# EAGLE library part 739-174 (library con-wago_739)
Serie 739, Klemmenleiste für Leiterplatten 1 Lötstift/Pol / Series 739, PCB terminal strip 1 solder pin/pole Polzahl / Pole No.: 24 Rastermaß / Pitch: 5.08 mm Bemessungsspannung / Rated Voltage: 320 V Nennstrom / Nominal Current: 24 A Leiterquerschnitt / Conductor Size: 0.08 - 2.5 mm² Anschlusstechnik / Connection Technology: CAGE CLAMP® Lötstiftlänge: / Solder Pin Length: 3.2 mm Leitereinführung (zur Platine) / Conductor entry angle (to PCB): 90 ° Farbe / Color: orange / orange Stand: 01.01.2012. Die jeweils aktuellen Daten zu diesem Artikel finden Sie in unserem Produktkatalog, den Sie unter www.wago.com einsehen können. As of: 01/01/2012. Please find the newest data for this article in our product catalogue, which can be viewed under www.wago.com.
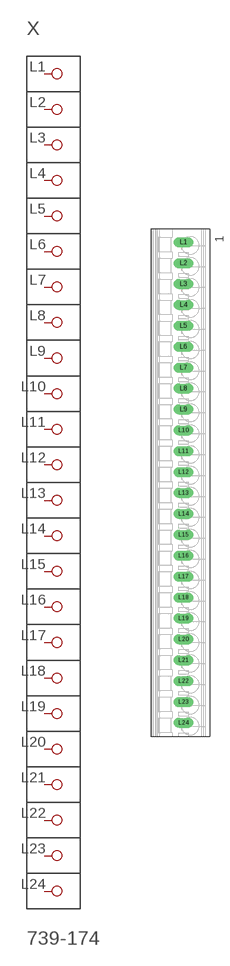
[diagram p87: symbol with the pads of P-739-174; footprint P-739-174]

Designator prefix X

## 739-174  [P-739-174]
L1  P1
L2  P2
L3  P3
L4  P4
L5  P5
L6  P6
L7  P7
L8  P8
L9  P9
L10  P10
L11  P11
L12  P12
L13  P13
L14  P14
L15  P15
L16  P16
L17  P17
L18  P18
L19  P19
L20  P20
L21  P21
L22  P22
L23  P23
L24  P24

## Footprint P-739-174 (pad centres in mm)
drill 1.6 long: L1 0.85,58.47; L2 0.85,53.39; L3 0.85,48.31; L4 0.85,43.23; L5 0.85,38.15; L6 0.85,33.07; L7 0.85,27.99; L8 0.85,22.91; L9 0.85,17.83; L10 0.85,12.75; L11 0.85,7.67; L12 0.85,2.59; L13 0.85,-2.49; L14 0.85,-7.57; L15 0.85,-12.65; L16 0.85,-17.73; L17 0.85,-22.81; L18 0.85,-27.89; L19 0.85,-32.97; L20 0.85,-38.05; L21 0.85,-43.13; L22 0.85,-48.21; L23 0.85,-53.29; L24 0.85,-58.37